# Altium footprint library QFP_Shrink_Sq_50P_Side_L.PcbLib: 32 footprints (part 2 of 3)
Each footprint in its own frame and in the unit in brackets; x right, y up, seen from the top. Pads: shape width x height; smd on the part's side, far side on the other; paste and mask are expansions set on the pad; w line width, h text height; cw(c..) or ccw(c..) is an arc to the next point about the centre after c.
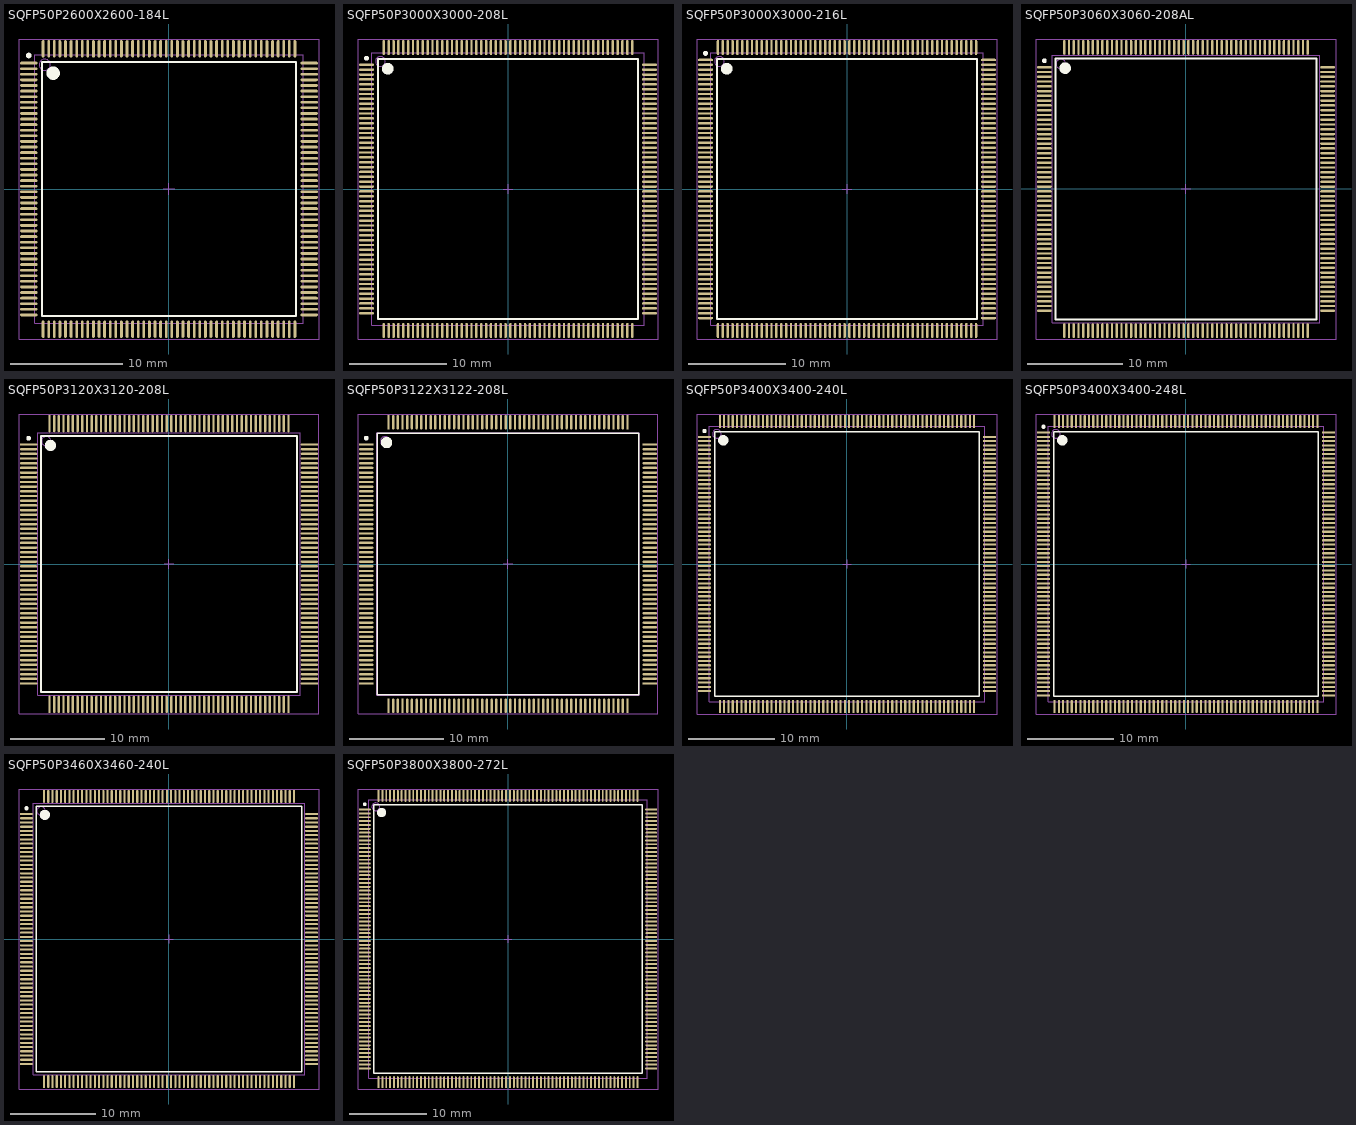
[diagram p1: the footprints below, top view; thin cyan lines are the x and y axes]

## SQFP50P2600X2600-184L [mm] "Shrink QFP, 184-Leads, Body 24x24mm, Pitch 0.5mm, IPC High Density"
height 3.2
pads (184):
  oval 1.55x0.25 smd: 1(-12.525,11.25) 2(-12.525,10.75) 3(-12.525,10.25) 4(-12.525,9.75) 5(-12.525,9.25) 6(-12.525,8.75) 7(-12.525,8.25) 8(-12.525,7.75) 9(-12.525,7.25) 10(-12.525,6.75) 11(-12.525,6.25) 12(-12.525,5.75) 13(-12.525,5.25) 14(-12.525,4.75) 15(-12.525,4.25) 16(-12.525,3.75) 17(-12.525,3.25) 18(-12.525,2.75) 19(-12.525,2.25) 20(-12.525,1.75) 21(-12.525,1.25) 22(-12.525,0.75) 23(-12.525,0.25) 24(-12.525,-0.25) 25(-12.525,-0.75) 26(-12.525,-1.25) 27(-12.525,-1.75) 28(-12.525,-2.25) 29(-12.525,-2.75) 30(-12.525,-3.25) 31(-12.525,-3.75) 32(-12.525,-4.25) 33(-12.525,-4.75) 34(-12.525,-5.25) 35(-12.525,-5.75) 36(-12.525,-6.25) 37(-12.525,-6.75) 38(-12.525,-7.25) 39(-12.525,-7.75) 40(-12.525,-8.25) 41(-12.525,-8.75) 42(-12.525,-9.25) 43(-12.525,-9.75) 44(-12.525,-10.25) 45(-12.525,-10.75) 46(-12.525,-11.25) 93(12.525,-11.25) 94(12.525,-10.75) 95(12.525,-10.25) 96(12.525,-9.75) 97(12.525,-9.25) 98(12.525,-8.75) 99(12.525,-8.25) 100(12.525,-7.75) 101(12.525,-7.25) 102(12.525,-6.75) 103(12.525,-6.25) 104(12.525,-5.75) 105(12.525,-5.25) 106(12.525,-4.75) 107(12.525,-4.25) 108(12.525,-3.75) 109(12.525,-3.25) 110(12.525,-2.75) 111(12.525,-2.25) 112(12.525,-1.75) 113(12.525,-1.25) 114(12.525,-0.75) 115(12.525,-0.25) 116(12.525,0.25) 117(12.525,0.75) 118(12.525,1.25) 119(12.525,1.75) 120(12.525,2.25) 121(12.525,2.75) 122(12.525,3.25) 123(12.525,3.75) 124(12.525,4.25) 125(12.525,4.75) 126(12.525,5.25) 127(12.525,5.75) 128(12.525,6.25) 129(12.525,6.75) 130(12.525,7.25) 131(12.525,7.75) 132(12.525,8.25) 133(12.525,8.75) 134(12.525,9.25) 135(12.525,9.75) 136(12.525,10.25) 137(12.525,10.75) 138(12.525,11.25)
  oval 0.25x1.55 smd: 47(-11.25,-12.525) 48(-10.75,-12.525) 49(-10.25,-12.525) 50(-9.75,-12.525) 51(-9.25,-12.525) 52(-8.75,-12.525) 53(-8.25,-12.525) 54(-7.75,-12.525) 55(-7.25,-12.525) 56(-6.75,-12.525) 57(-6.25,-12.525) 58(-5.75,-12.525) 59(-5.25,-12.525) 60(-4.75,-12.525) 61(-4.25,-12.525) 62(-3.75,-12.525) 63(-3.25,-12.525) 64(-2.75,-12.525) 65(-2.25,-12.525) 66(-1.75,-12.525) 67(-1.25,-12.525) 68(-0.75,-12.525) 69(-0.25,-12.525) 70(0.25,-12.525) 71(0.75,-12.525) 72(1.25,-12.525) 73(1.75,-12.525) 74(2.25,-12.525) 75(2.75,-12.525) 76(3.25,-12.525) 77(3.75,-12.525) 78(4.25,-12.525) 79(4.75,-12.525) 80(5.25,-12.525) 81(5.75,-12.525) 82(6.25,-12.525) 83(6.75,-12.525) 84(7.25,-12.525) 85(7.75,-12.525) 86(8.25,-12.525) 87(8.75,-12.525) 88(9.25,-12.525) 89(9.75,-12.525) 90(10.25,-12.525) 91(10.75,-12.525) 92(11.25,-12.525) 139(11.25,12.525) 140(10.75,12.525) 141(10.25,12.525) 142(9.75,12.525) 143(9.25,12.525) 144(8.75,12.525) 145(8.25,12.525) 146(7.75,12.525) 147(7.25,12.525) 148(6.75,12.525) 149(6.25,12.525) 150(5.75,12.525) 151(5.25,12.525) 152(4.75,12.525) 153(4.25,12.525) 154(3.75,12.525) 155(3.25,12.525) 156(2.75,12.525) 157(2.25,12.525) 158(1.75,12.525) 159(1.25,12.525) 160(0.75,12.525) 161(0.25,12.525) 162(-0.25,12.525) 163(-0.75,12.525) 164(-1.25,12.525) 165(-1.75,12.525) 166(-2.25,12.525) 167(-2.75,12.525) 168(-3.25,12.525) 169(-3.75,12.525) 170(-4.25,12.525) 171(-4.75,12.525) 172(-5.25,12.525) 173(-5.75,12.525) 174(-6.25,12.525) 175(-6.75,12.525) 176(-7.25,12.525) 177(-7.75,12.525) 178(-8.25,12.525) 179(-8.75,12.525) 180(-9.25,12.525) 181(-9.75,12.525) 182(-10.25,12.525) 183(-10.75,12.525) 184(-11.25,12.525)
Top Overlay:
  circle w0.6: c-10.35,10.35 r0.3
  circle w0.25: c-12.525,11.925 r0.125
  lines w0.2: -11.35,-11.35 11.35,-11.35 11.35,11.35 -11.35,11.35 -11.35,-11.35
Mechanical 13:
  circle w0.1: c-11.1,11.1 r0.5
  lines w0.1: -12,-12 12,-12 12,12 -12,12 -12,-12
Mechanical 15:
  lines w0.1: -0.5,0 0.5,0 ; 0,-0.5 0,0.5 ; -13.4,-13.4 13.4,-13.4 13.4,13.4 -13.4,13.4 -13.4,-13.4
3D body: height 3.2, standoff 0, extent -12,-12 12,12

## SQFP50P3000X3000-208L [mm] "Shrink QFP, 208-Leads, Body 28x28mm, Pitch 0.5mm, IPC High Density"
height 3.75
pads (208):
  oval 1.55x0.25 smd: 1(-14.525,12.75) 2(-14.525,12.25) 3(-14.525,11.75) 4(-14.525,11.25) 5(-14.525,10.75) 6(-14.525,10.25) 7(-14.525,9.75) 8(-14.525,9.25) 9(-14.525,8.75) 10(-14.525,8.25) 11(-14.525,7.75) 12(-14.525,7.25) 13(-14.525,6.75) 14(-14.525,6.25) 15(-14.525,5.75) 16(-14.525,5.25) 17(-14.525,4.75) 18(-14.525,4.25) 19(-14.525,3.75) 20(-14.525,3.25) 21(-14.525,2.75) 22(-14.525,2.25) 23(-14.525,1.75) 24(-14.525,1.25) 25(-14.525,0.75) 26(-14.525,0.25) 27(-14.525,-0.25) 28(-14.525,-0.75) 29(-14.525,-1.25) 30(-14.525,-1.75) 31(-14.525,-2.25) 32(-14.525,-2.75) 33(-14.525,-3.25) 34(-14.525,-3.75) 35(-14.525,-4.25) 36(-14.525,-4.75) 37(-14.525,-5.25) 38(-14.525,-5.75) 39(-14.525,-6.25) 40(-14.525,-6.75) 41(-14.525,-7.25) 42(-14.525,-7.75) 43(-14.525,-8.25) 44(-14.525,-8.75) 45(-14.525,-9.25) 46(-14.525,-9.75) 47(-14.525,-10.25) 48(-14.525,-10.75) 49(-14.525,-11.25) 50(-14.525,-11.75) 51(-14.525,-12.25) 52(-14.525,-12.75) 105(14.525,-12.75) 106(14.525,-12.25) 107(14.525,-11.75) 108(14.525,-11.25) 109(14.525,-10.75) 110(14.525,-10.25) 111(14.525,-9.75) 112(14.525,-9.25) 113(14.525,-8.75) 114(14.525,-8.25) 115(14.525,-7.75) 116(14.525,-7.25) 117(14.525,-6.75) 118(14.525,-6.25) 119(14.525,-5.75) 120(14.525,-5.25) 121(14.525,-4.75) 122(14.525,-4.25) 123(14.525,-3.75) 124(14.525,-3.25) 125(14.525,-2.75) 126(14.525,-2.25) 127(14.525,-1.75) 128(14.525,-1.25) 129(14.525,-0.75) 130(14.525,-0.25) 131(14.525,0.25) 132(14.525,0.75) 133(14.525,1.25) 134(14.525,1.75) 135(14.525,2.25) 136(14.525,2.75) 137(14.525,3.25) 138(14.525,3.75) 139(14.525,4.25) 140(14.525,4.75) 141(14.525,5.25) 142(14.525,5.75) 143(14.525,6.25) 144(14.525,6.75) 145(14.525,7.25) 146(14.525,7.75) 147(14.525,8.25) 148(14.525,8.75) 149(14.525,9.25) 150(14.525,9.75) 151(14.525,10.25) 152(14.525,10.75) 153(14.525,11.25) 154(14.525,11.75) 155(14.525,12.25) 156(14.525,12.75)
  oval 0.25x1.55 smd: 53(-12.75,-14.525) 54(-12.25,-14.525) 55(-11.75,-14.525) 56(-11.25,-14.525) 57(-10.75,-14.525) 58(-10.25,-14.525) 59(-9.75,-14.525) 60(-9.25,-14.525) 61(-8.75,-14.525) 62(-8.25,-14.525) 63(-7.75,-14.525) 64(-7.25,-14.525) 65(-6.75,-14.525) 66(-6.25,-14.525) 67(-5.75,-14.525) 68(-5.25,-14.525) 69(-4.75,-14.525) 70(-4.25,-14.525) 71(-3.75,-14.525) 72(-3.25,-14.525) 73(-2.75,-14.525) 74(-2.25,-14.525) 75(-1.75,-14.525) 76(-1.25,-14.525) 77(-0.75,-14.525) 78(-0.25,-14.525) 79(0.25,-14.525) 80(0.75,-14.525) 81(1.25,-14.525) 82(1.75,-14.525) 83(2.25,-14.525) 84(2.75,-14.525) 85(3.25,-14.525) 86(3.75,-14.525) 87(4.25,-14.525) 88(4.75,-14.525) 89(5.25,-14.525) 90(5.75,-14.525) 91(6.25,-14.525) 92(6.75,-14.525) 93(7.25,-14.525) 94(7.75,-14.525) 95(8.25,-14.525) 96(8.75,-14.525) 97(9.25,-14.525) 98(9.75,-14.525) 99(10.25,-14.525) 100(10.75,-14.525) 101(11.25,-14.525) 102(11.75,-14.525) 103(12.25,-14.525) 104(12.75,-14.525) 157(12.75,14.525) 158(12.25,14.525) 159(11.75,14.525) 160(11.25,14.525) 161(10.75,14.525) 162(10.25,14.525) 163(9.75,14.525) 164(9.25,14.525) 165(8.75,14.525) 166(8.25,14.525) 167(7.75,14.525) 168(7.25,14.525) 169(6.75,14.525) 170(6.25,14.525) 171(5.75,14.525) 172(5.25,14.525) 173(4.75,14.525) 174(4.25,14.525) 175(3.75,14.525) 176(3.25,14.525) 177(2.75,14.525) 178(2.25,14.525) 179(1.75,14.525) 180(1.25,14.525) 181(0.75,14.525) 182(0.25,14.525) 183(-0.25,14.525) 184(-0.75,14.525) 185(-1.25,14.525) 186(-1.75,14.525) 187(-2.25,14.525) 188(-2.75,14.525) 189(-3.25,14.525) 190(-3.75,14.525) 191(-4.25,14.525) 192(-4.75,14.525) 193(-5.25,14.525) 194(-5.75,14.525) 195(-6.25,14.525) 196(-6.75,14.525) 197(-7.25,14.525) 198(-7.75,14.525) 199(-8.25,14.525) 200(-8.75,14.525) 201(-9.25,14.525) 202(-9.75,14.525) 203(-10.25,14.525) 204(-10.75,14.525) 205(-11.25,14.525) 206(-11.75,14.525) 207(-12.25,14.525) 208(-12.75,14.525)
Top Overlay:
  circle w0.6: c-12.35,12.35 r0.3
  circle w0.25: c-14.525,13.425 r0.125
  lines w0.2: -13.35,-13.35 13.35,-13.35 13.35,13.35 -13.35,13.35 -13.35,-13.35
Mechanical 13:
  circle w0.1: c-13.1,13.1 r0.5
  lines w0.1: -14,-14 14,-14 14,14 -14,14 -14,-14
Mechanical 15:
  lines w0.1: -0.5,0 0.5,0 ; 0,-0.5 0,0.5 ; -15.4,-15.4 15.4,-15.4 15.4,15.4 -15.4,15.4 -15.4,-15.4
3D body: height 3.75, standoff 0, extent -14,-14 14,14

## SQFP50P3000X3000-216L [mm] "Shrink QFP, 216-Leads, Body 28x28mm, Pitch 0.5mm, IPC High Density"
height 3.75
pads (216):
  oval 1.55x0.25 smd: 1(-14.525,13.25) 2(-14.525,12.75) 3(-14.525,12.25) 4(-14.525,11.75) 5(-14.525,11.25) 6(-14.525,10.75) 7(-14.525,10.25) 8(-14.525,9.75) 9(-14.525,9.25) 10(-14.525,8.75) 11(-14.525,8.25) 12(-14.525,7.75) 13(-14.525,7.25) 14(-14.525,6.75) 15(-14.525,6.25) 16(-14.525,5.75) 17(-14.525,5.25) 18(-14.525,4.75) 19(-14.525,4.25) 20(-14.525,3.75) 21(-14.525,3.25) 22(-14.525,2.75) 23(-14.525,2.25) 24(-14.525,1.75) 25(-14.525,1.25) 26(-14.525,0.75) 27(-14.525,0.25) 28(-14.525,-0.25) 29(-14.525,-0.75) 30(-14.525,-1.25) 31(-14.525,-1.75) 32(-14.525,-2.25) 33(-14.525,-2.75) 34(-14.525,-3.25) 35(-14.525,-3.75) 36(-14.525,-4.25) 37(-14.525,-4.75) 38(-14.525,-5.25) 39(-14.525,-5.75) 40(-14.525,-6.25) 41(-14.525,-6.75) 42(-14.525,-7.25) 43(-14.525,-7.75) 44(-14.525,-8.25) 45(-14.525,-8.75) 46(-14.525,-9.25) 47(-14.525,-9.75) 48(-14.525,-10.25) 49(-14.525,-10.75) 50(-14.525,-11.25) 51(-14.525,-11.75) 52(-14.525,-12.25) 53(-14.525,-12.75) 54(-14.525,-13.25) 109(14.525,-13.25) 110(14.525,-12.75) 111(14.525,-12.25) 112(14.525,-11.75) 113(14.525,-11.25) 114(14.525,-10.75) 115(14.525,-10.25) 116(14.525,-9.75) 117(14.525,-9.25) 118(14.525,-8.75) 119(14.525,-8.25) 120(14.525,-7.75) 121(14.525,-7.25) 122(14.525,-6.75) 123(14.525,-6.25) 124(14.525,-5.75) 125(14.525,-5.25) 126(14.525,-4.75) 127(14.525,-4.25) 128(14.525,-3.75) 129(14.525,-3.25) 130(14.525,-2.75) 131(14.525,-2.25) 132(14.525,-1.75) 133(14.525,-1.25) 134(14.525,-0.75) 135(14.525,-0.25) 136(14.525,0.25) 137(14.525,0.75) 138(14.525,1.25) 139(14.525,1.75) 140(14.525,2.25) 141(14.525,2.75) 142(14.525,3.25) 143(14.525,3.75) 144(14.525,4.25) 145(14.525,4.75) 146(14.525,5.25) 147(14.525,5.75) 148(14.525,6.25) 149(14.525,6.75) 150(14.525,7.25) 151(14.525,7.75) 152(14.525,8.25) 153(14.525,8.75) 154(14.525,9.25) 155(14.525,9.75) 156(14.525,10.25) 157(14.525,10.75) 158(14.525,11.25) 159(14.525,11.75) 160(14.525,12.25) 161(14.525,12.75) 162(14.525,13.25)
  oval 0.25x1.55 smd: 55(-13.25,-14.525) 56(-12.75,-14.525) 57(-12.25,-14.525) 58(-11.75,-14.525) 59(-11.25,-14.525) 60(-10.75,-14.525) 61(-10.25,-14.525) 62(-9.75,-14.525) 63(-9.25,-14.525) 64(-8.75,-14.525) 65(-8.25,-14.525) 66(-7.75,-14.525) 67(-7.25,-14.525) 68(-6.75,-14.525) 69(-6.25,-14.525) 70(-5.75,-14.525) 71(-5.25,-14.525) 72(-4.75,-14.525) 73(-4.25,-14.525) 74(-3.75,-14.525) 75(-3.25,-14.525) 76(-2.75,-14.525) 77(-2.25,-14.525) 78(-1.75,-14.525) 79(-1.25,-14.525) 80(-0.75,-14.525) 81(-0.25,-14.525) 82(0.25,-14.525) 83(0.75,-14.525) 84(1.25,-14.525) 85(1.75,-14.525) 86(2.25,-14.525) 87(2.75,-14.525) 88(3.25,-14.525) 89(3.75,-14.525) 90(4.25,-14.525) 91(4.75,-14.525) 92(5.25,-14.525) 93(5.75,-14.525) 94(6.25,-14.525) 95(6.75,-14.525) 96(7.25,-14.525) 97(7.75,-14.525) 98(8.25,-14.525) 99(8.75,-14.525) 100(9.25,-14.525) 101(9.75,-14.525) 102(10.25,-14.525) 103(10.75,-14.525) 104(11.25,-14.525) 105(11.75,-14.525) 106(12.25,-14.525) 107(12.75,-14.525) 108(13.25,-14.525) 163(13.25,14.525) 164(12.75,14.525) 165(12.25,14.525) 166(11.75,14.525) 167(11.25,14.525) 168(10.75,14.525) 169(10.25,14.525) 170(9.75,14.525) 171(9.25,14.525) 172(8.75,14.525) 173(8.25,14.525) 174(7.75,14.525) 175(7.25,14.525) 176(6.75,14.525) 177(6.25,14.525) 178(5.75,14.525) 179(5.25,14.525) 180(4.75,14.525) 181(4.25,14.525) 182(3.75,14.525) 183(3.25,14.525) 184(2.75,14.525) 185(2.25,14.525) 186(1.75,14.525) 187(1.25,14.525) 188(0.75,14.525) 189(0.25,14.525) 190(-0.25,14.525) 191(-0.75,14.525) 192(-1.25,14.525) 193(-1.75,14.525) 194(-2.25,14.525) 195(-2.75,14.525) 196(-3.25,14.525) 197(-3.75,14.525) 198(-4.25,14.525) 199(-4.75,14.525) 200(-5.25,14.525) 201(-5.75,14.525) 202(-6.25,14.525) 203(-6.75,14.525) 204(-7.25,14.525) 205(-7.75,14.525) 206(-8.25,14.525) 207(-8.75,14.525) 208(-9.25,14.525) 209(-9.75,14.525) 210(-10.25,14.525) 211(-10.75,14.525) 212(-11.25,14.525) 213(-11.75,14.525) 214(-12.25,14.525) 215(-12.75,14.525) 216(-13.25,14.525)
Top Overlay:
  circle w0.6: c-12.35,12.35 r0.3
  circle w0.25: c-14.525,13.925 r0.125
  lines w0.2: -13.35,-13.35 13.35,-13.35 13.35,13.35 -13.35,13.35 -13.35,-13.35
Mechanical 13:
  circle w0.1: c-13.1,13.1 r0.5
  lines w0.1: -14,-14 14,-14 14,14 -14,14 -14,-14
Mechanical 15:
  lines w0.1: -0.5,0 0.5,0 ; 0,-0.5 0,0.5 ; -15.4,-15.4 15.4,-15.4 15.4,15.4 -15.4,15.4 -15.4,-15.4
3D body: height 3.75, standoff 0, extent -14,-14 14,14

## SQFP50P3060X3060-208AL [mm] "Shrink QFP, 208-Leads, Body 28x28mm, Pitch 0.5mm, IPC High Density"
height 4.1
pads (208):
  oval 1.55x0.25 smd: 1(-14.825,12.75) 2(-14.825,12.25) 3(-14.825,11.75) 4(-14.825,11.25) 5(-14.825,10.75) 6(-14.825,10.25) 7(-14.825,9.75) 8(-14.825,9.25) 9(-14.825,8.75) 10(-14.825,8.25) 11(-14.825,7.75) 12(-14.825,7.25) 13(-14.825,6.75) 14(-14.825,6.25) 15(-14.825,5.75) 16(-14.825,5.25) 17(-14.825,4.75) 18(-14.825,4.25) 19(-14.825,3.75) 20(-14.825,3.25) 21(-14.825,2.75) 22(-14.825,2.25) 23(-14.825,1.75) 24(-14.825,1.25) 25(-14.825,0.75) 26(-14.825,0.25) 27(-14.825,-0.25) 28(-14.825,-0.75) 29(-14.825,-1.25) 30(-14.825,-1.75) 31(-14.825,-2.25) 32(-14.825,-2.75) 33(-14.825,-3.25) 34(-14.825,-3.75) 35(-14.825,-4.25) 36(-14.825,-4.75) 37(-14.825,-5.25) 38(-14.825,-5.75) 39(-14.825,-6.25) 40(-14.825,-6.75) 41(-14.825,-7.25) 42(-14.825,-7.75) 43(-14.825,-8.25) 44(-14.825,-8.75) 45(-14.825,-9.25) 46(-14.825,-9.75) 47(-14.825,-10.25) 48(-14.825,-10.75) 49(-14.825,-11.25) 50(-14.825,-11.75) 51(-14.825,-12.25) 52(-14.825,-12.75) 105(14.825,-12.75) 106(14.825,-12.25) 107(14.825,-11.75) 108(14.825,-11.25) 109(14.825,-10.75) 110(14.825,-10.25) 111(14.825,-9.75) 112(14.825,-9.25) 113(14.825,-8.75) 114(14.825,-8.25) 115(14.825,-7.75) 116(14.825,-7.25) 117(14.825,-6.75) 118(14.825,-6.25) 119(14.825,-5.75) 120(14.825,-5.25) 121(14.825,-4.75) 122(14.825,-4.25) 123(14.825,-3.75) 124(14.825,-3.25) 125(14.825,-2.75) 126(14.825,-2.25) 127(14.825,-1.75) 128(14.825,-1.25) 129(14.825,-0.75) 130(14.825,-0.25) 131(14.825,0.25) 132(14.825,0.75) 133(14.825,1.25) 134(14.825,1.75) 135(14.825,2.25) 136(14.825,2.75) 137(14.825,3.25) 138(14.825,3.75) 139(14.825,4.25) 140(14.825,4.75) 141(14.825,5.25) 142(14.825,5.75) 143(14.825,6.25) 144(14.825,6.75) 145(14.825,7.25) 146(14.825,7.75) 147(14.825,8.25) 148(14.825,8.75) 149(14.825,9.25) 150(14.825,9.75) 151(14.825,10.25) 152(14.825,10.75) 153(14.825,11.25) 154(14.825,11.75) 155(14.825,12.25) 156(14.825,12.75)
  oval 0.25x1.55 smd: 53(-12.75,-14.825) 54(-12.25,-14.825) 55(-11.75,-14.825) 56(-11.25,-14.825) 57(-10.75,-14.825) 58(-10.25,-14.825) 59(-9.75,-14.825) 60(-9.25,-14.825) 61(-8.75,-14.825) 62(-8.25,-14.825) 63(-7.75,-14.825) 64(-7.25,-14.825) 65(-6.75,-14.825) 66(-6.25,-14.825) 67(-5.75,-14.825) 68(-5.25,-14.825) 69(-4.75,-14.825) 70(-4.25,-14.825) 71(-3.75,-14.825) 72(-3.25,-14.825) 73(-2.75,-14.825) 74(-2.25,-14.825) 75(-1.75,-14.825) 76(-1.25,-14.825) 77(-0.75,-14.825) 78(-0.25,-14.825) 79(0.25,-14.825) 80(0.75,-14.825) 81(1.25,-14.825) 82(1.75,-14.825) 83(2.25,-14.825) 84(2.75,-14.825) 85(3.25,-14.825) 86(3.75,-14.825) 87(4.25,-14.825) 88(4.75,-14.825) 89(5.25,-14.825) 90(5.75,-14.825) 91(6.25,-14.825) 92(6.75,-14.825) 93(7.25,-14.825) 94(7.75,-14.825) 95(8.25,-14.825) 96(8.75,-14.825) 97(9.25,-14.825) 98(9.75,-14.825) 99(10.25,-14.825) 100(10.75,-14.825) 101(11.25,-14.825) 102(11.75,-14.825) 103(12.25,-14.825) 104(12.75,-14.825) 157(12.75,14.825) 158(12.25,14.825) 159(11.75,14.825) 160(11.25,14.825) 161(10.75,14.825) 162(10.25,14.825) 163(9.75,14.825) 164(9.25,14.825) 165(8.75,14.825) 166(8.25,14.825) 167(7.75,14.825) 168(7.25,14.825) 169(6.75,14.825) 170(6.25,14.825) 171(5.75,14.825) 172(5.25,14.825) 173(4.75,14.825) 174(4.25,14.825) 175(3.75,14.825) 176(3.25,14.825) 177(2.75,14.825) 178(2.25,14.825) 179(1.75,14.825) 180(1.25,14.825) 181(0.75,14.825) 182(0.25,14.825) 183(-0.25,14.825) 184(-0.75,14.825) 185(-1.25,14.825) 186(-1.75,14.825) 187(-2.25,14.825) 188(-2.75,14.825) 189(-3.25,14.825) 190(-3.75,14.825) 191(-4.25,14.825) 192(-4.75,14.825) 193(-5.25,14.825) 194(-5.75,14.825) 195(-6.25,14.825) 196(-6.75,14.825) 197(-7.25,14.825) 198(-7.75,14.825) 199(-8.25,14.825) 200(-8.75,14.825) 201(-9.25,14.825) 202(-9.75,14.825) 203(-10.25,14.825) 204(-10.75,14.825) 205(-11.25,14.825) 206(-11.75,14.825) 207(-12.25,14.825) 208(-12.75,14.825)
Top Overlay:
  circle w0.6: c-12.65,12.65 r0.3
  circle w0.25: c-14.825,13.425 r0.125
  lines w0.2: -13.65,-13.65 13.65,-13.65 13.65,13.65 -13.65,13.65 -13.65,-13.65
Mechanical 13:
  circle w0.1: c-13.1,13.1 r0.5
  lines w0.1: -14,-14 14,-14 14,14 -14,14 -14,-14
Mechanical 15:
  lines w0.1: -0.5,0 0.5,0 ; 0,-0.5 0,0.5 ; -15.7,-15.7 15.7,-15.7 15.7,15.7 -15.7,15.7 -15.7,-15.7
3D body: height 4.1, standoff 0, extent -14,-14 14,14

## SQFP50P3120X3120-208L [mm] "Shrink QFP, 208-Leads, Body 28x28mm, Pitch 0.5mm, IPC High Density"
height 4.1
pads (208):
  oval 1.85x0.25 smd: 1(-14.975,12.75) 2(-14.975,12.25) 3(-14.975,11.75) 4(-14.975,11.25) 5(-14.975,10.75) 6(-14.975,10.25) 7(-14.975,9.75) 8(-14.975,9.25) 9(-14.975,8.75) 10(-14.975,8.25) 11(-14.975,7.75) 12(-14.975,7.25) 13(-14.975,6.75) 14(-14.975,6.25) 15(-14.975,5.75) 16(-14.975,5.25) 17(-14.975,4.75) 18(-14.975,4.25) 19(-14.975,3.75) 20(-14.975,3.25) 21(-14.975,2.75) 22(-14.975,2.25) 23(-14.975,1.75) 24(-14.975,1.25) 25(-14.975,0.75) 26(-14.975,0.25) 27(-14.975,-0.25) 28(-14.975,-0.75) 29(-14.975,-1.25) 30(-14.975,-1.75) 31(-14.975,-2.25) 32(-14.975,-2.75) 33(-14.975,-3.25) 34(-14.975,-3.75) 35(-14.975,-4.25) 36(-14.975,-4.75) 37(-14.975,-5.25) 38(-14.975,-5.75) 39(-14.975,-6.25) 40(-14.975,-6.75) 41(-14.975,-7.25) 42(-14.975,-7.75) 43(-14.975,-8.25) 44(-14.975,-8.75) 45(-14.975,-9.25) 46(-14.975,-9.75) 47(-14.975,-10.25) 48(-14.975,-10.75) 49(-14.975,-11.25) 50(-14.975,-11.75) 51(-14.975,-12.25) 52(-14.975,-12.75) 105(14.975,-12.75) 106(14.975,-12.25) 107(14.975,-11.75) 108(14.975,-11.25) 109(14.975,-10.75) 110(14.975,-10.25) 111(14.975,-9.75) 112(14.975,-9.25) 113(14.975,-8.75) 114(14.975,-8.25) 115(14.975,-7.75) 116(14.975,-7.25) 117(14.975,-6.75) 118(14.975,-6.25) 119(14.975,-5.75) 120(14.975,-5.25) 121(14.975,-4.75) 122(14.975,-4.25) 123(14.975,-3.75) 124(14.975,-3.25) 125(14.975,-2.75) 126(14.975,-2.25) 127(14.975,-1.75) 128(14.975,-1.25) 129(14.975,-0.75) 130(14.975,-0.25) 131(14.975,0.25) 132(14.975,0.75) 133(14.975,1.25) 134(14.975,1.75) 135(14.975,2.25) 136(14.975,2.75) 137(14.975,3.25) 138(14.975,3.75) 139(14.975,4.25) 140(14.975,4.75) 141(14.975,5.25) 142(14.975,5.75) 143(14.975,6.25) 144(14.975,6.75) 145(14.975,7.25) 146(14.975,7.75) 147(14.975,8.25) 148(14.975,8.75) 149(14.975,9.25) 150(14.975,9.75) 151(14.975,10.25) 152(14.975,10.75) 153(14.975,11.25) 154(14.975,11.75) 155(14.975,12.25) 156(14.975,12.75)
  oval 0.25x1.85 smd: 53(-12.75,-14.975) 54(-12.25,-14.975) 55(-11.75,-14.975) 56(-11.25,-14.975) 57(-10.75,-14.975) 58(-10.25,-14.975) 59(-9.75,-14.975) 60(-9.25,-14.975) 61(-8.75,-14.975) 62(-8.25,-14.975) 63(-7.75,-14.975) 64(-7.25,-14.975) 65(-6.75,-14.975) 66(-6.25,-14.975) 67(-5.75,-14.975) 68(-5.25,-14.975) 69(-4.75,-14.975) 70(-4.25,-14.975) 71(-3.75,-14.975) 72(-3.25,-14.975) 73(-2.75,-14.975) 74(-2.25,-14.975) 75(-1.75,-14.975) 76(-1.25,-14.975) 77(-0.75,-14.975) 78(-0.25,-14.975) 79(0.25,-14.975) 80(0.75,-14.975) 81(1.25,-14.975) 82(1.75,-14.975) 83(2.25,-14.975) 84(2.75,-14.975) 85(3.25,-14.975) 86(3.75,-14.975) 87(4.25,-14.975) 88(4.75,-14.975) 89(5.25,-14.975) 90(5.75,-14.975) 91(6.25,-14.975) 92(6.75,-14.975) 93(7.25,-14.975) 94(7.75,-14.975) 95(8.25,-14.975) 96(8.75,-14.975) 97(9.25,-14.975) 98(9.75,-14.975) 99(10.25,-14.975) 100(10.75,-14.975) 101(11.25,-14.975) 102(11.75,-14.975) 103(12.25,-14.975) 104(12.75,-14.975) 157(12.75,14.975) 158(12.25,14.975) 159(11.75,14.975) 160(11.25,14.975) 161(10.75,14.975) 162(10.25,14.975) 163(9.75,14.975) 164(9.25,14.975) 165(8.75,14.975) 166(8.25,14.975) 167(7.75,14.975) 168(7.25,14.975) 169(6.75,14.975) 170(6.25,14.975) 171(5.75,14.975) 172(5.25,14.975) 173(4.75,14.975) 174(4.25,14.975) 175(3.75,14.975) 176(3.25,14.975) 177(2.75,14.975) 178(2.25,14.975) 179(1.75,14.975) 180(1.25,14.975) 181(0.75,14.975) 182(0.25,14.975) 183(-0.25,14.975) 184(-0.75,14.975) 185(-1.25,14.975) 186(-1.75,14.975) 187(-2.25,14.975) 188(-2.75,14.975) 189(-3.25,14.975) 190(-3.75,14.975) 191(-4.25,14.975) 192(-4.75,14.975) 193(-5.25,14.975) 194(-5.75,14.975) 195(-6.25,14.975) 196(-6.75,14.975) 197(-7.25,14.975) 198(-7.75,14.975) 199(-8.25,14.975) 200(-8.75,14.975) 201(-9.25,14.975) 202(-9.75,14.975) 203(-10.25,14.975) 204(-10.75,14.975) 205(-11.25,14.975) 206(-11.75,14.975) 207(-12.25,14.975) 208(-12.75,14.975)
Top Overlay:
  circle w0.6: c-12.65,12.65 r0.3
  circle w0.25: c-14.975,13.425 r0.125
  lines w0.2: -13.65,-13.65 13.65,-13.65 13.65,13.65 -13.65,13.65 -13.65,-13.65
Mechanical 13:
  circle w0.1: c-13.1,13.1 r0.5
  lines w0.1: -14,-14 14,-14 14,14 -14,14 -14,-14
Mechanical 15:
  lines w0.1: -0.5,0 0.5,0 ; 0,-0.5 0,0.5 ; -16,-16 16,-16 16,16 -16,16 -16,-16
3D body: height 4.1, standoff 0, extent -14,-14 14,14

## SQFP50P3122X3122-208L [mm] "Shrink QFP, 208-Leads, Body 28x28mm, Pitch 0.5mm, IPC High Density"
height 2.94
pads (208):
  oval 1.55x0.25 smd: 1(-15.125,12.75) 2(-15.125,12.25) 3(-15.125,11.75) 4(-15.125,11.25) 5(-15.125,10.75) 6(-15.125,10.25) 7(-15.125,9.75) 8(-15.125,9.25) 9(-15.125,8.75) 10(-15.125,8.25) 11(-15.125,7.75) 12(-15.125,7.25) 13(-15.125,6.75) 14(-15.125,6.25) 15(-15.125,5.75) 16(-15.125,5.25) 17(-15.125,4.75) 18(-15.125,4.25) 19(-15.125,3.75) 20(-15.125,3.25) 21(-15.125,2.75) 22(-15.125,2.25) 23(-15.125,1.75) 24(-15.125,1.25) 25(-15.125,0.75) 26(-15.125,0.25) 27(-15.125,-0.25) 28(-15.125,-0.75) 29(-15.125,-1.25) 30(-15.125,-1.75) 31(-15.125,-2.25) 32(-15.125,-2.75) 33(-15.125,-3.25) 34(-15.125,-3.75) 35(-15.125,-4.25) 36(-15.125,-4.75) 37(-15.125,-5.25) 38(-15.125,-5.75) 39(-15.125,-6.25) 40(-15.125,-6.75) 41(-15.125,-7.25) 42(-15.125,-7.75) 43(-15.125,-8.25) 44(-15.125,-8.75) 45(-15.125,-9.25) 46(-15.125,-9.75) 47(-15.125,-10.25) 48(-15.125,-10.75) 49(-15.125,-11.25) 50(-15.125,-11.75) 51(-15.125,-12.25) 52(-15.125,-12.75) 105(15.125,-12.75) 106(15.125,-12.25) 107(15.125,-11.75) 108(15.125,-11.25) 109(15.125,-10.75) 110(15.125,-10.25) 111(15.125,-9.75) 112(15.125,-9.25) 113(15.125,-8.75) 114(15.125,-8.25) 115(15.125,-7.75) 116(15.125,-7.25) 117(15.125,-6.75) 118(15.125,-6.25) 119(15.125,-5.75) 120(15.125,-5.25) 121(15.125,-4.75) 122(15.125,-4.25) 123(15.125,-3.75) 124(15.125,-3.25) 125(15.125,-2.75) 126(15.125,-2.25) 127(15.125,-1.75) 128(15.125,-1.25) 129(15.125,-0.75) 130(15.125,-0.25) 131(15.125,0.25) 132(15.125,0.75) 133(15.125,1.25) 134(15.125,1.75) 135(15.125,2.25) 136(15.125,2.75) 137(15.125,3.25) 138(15.125,3.75) 139(15.125,4.25) 140(15.125,4.75) 141(15.125,5.25) 142(15.125,5.75) 143(15.125,6.25) 144(15.125,6.75) 145(15.125,7.25) 146(15.125,7.75) 147(15.125,8.25) 148(15.125,8.75) 149(15.125,9.25) 150(15.125,9.75) 151(15.125,10.25) 152(15.125,10.75) 153(15.125,11.25) 154(15.125,11.75) 155(15.125,12.25) 156(15.125,12.75)
  oval 0.25x1.55 smd: 53(-12.75,-15.125) 54(-12.25,-15.125) 55(-11.75,-15.125) 56(-11.25,-15.125) 57(-10.75,-15.125) 58(-10.25,-15.125) 59(-9.75,-15.125) 60(-9.25,-15.125) 61(-8.75,-15.125) 62(-8.25,-15.125) 63(-7.75,-15.125) 64(-7.25,-15.125) 65(-6.75,-15.125) 66(-6.25,-15.125) 67(-5.75,-15.125) 68(-5.25,-15.125) 69(-4.75,-15.125) 70(-4.25,-15.125) 71(-3.75,-15.125) 72(-3.25,-15.125) 73(-2.75,-15.125) 74(-2.25,-15.125) 75(-1.75,-15.125) 76(-1.25,-15.125) 77(-0.75,-15.125) 78(-0.25,-15.125) 79(0.25,-15.125) 80(0.75,-15.125) 81(1.25,-15.125) 82(1.75,-15.125) 83(2.25,-15.125) 84(2.75,-15.125) 85(3.25,-15.125) 86(3.75,-15.125) 87(4.25,-15.125) 88(4.75,-15.125) 89(5.25,-15.125) 90(5.75,-15.125) 91(6.25,-15.125) 92(6.75,-15.125) 93(7.25,-15.125) 94(7.75,-15.125) 95(8.25,-15.125) 96(8.75,-15.125) 97(9.25,-15.125) 98(9.75,-15.125) 99(10.25,-15.125) 100(10.75,-15.125) 101(11.25,-15.125) 102(11.75,-15.125) 103(12.25,-15.125) 104(12.75,-15.125) 157(12.75,15.125) 158(12.25,15.125) 159(11.75,15.125) 160(11.25,15.125) 161(10.75,15.125) 162(10.25,15.125) 163(9.75,15.125) 164(9.25,15.125) 165(8.75,15.125) 166(8.25,15.125) 167(7.75,15.125) 168(7.25,15.125) 169(6.75,15.125) 170(6.25,15.125) 171(5.75,15.125) 172(5.25,15.125) 173(4.75,15.125) 174(4.25,15.125) 175(3.75,15.125) 176(3.25,15.125) 177(2.75,15.125) 178(2.25,15.125) 179(1.75,15.125) 180(1.25,15.125) 181(0.75,15.125) 182(0.25,15.125) 183(-0.25,15.125) 184(-0.75,15.125) 185(-1.25,15.125) 186(-1.75,15.125) 187(-2.25,15.125) 188(-2.75,15.125) 189(-3.25,15.125) 190(-3.75,15.125) 191(-4.25,15.125) 192(-4.75,15.125) 193(-5.25,15.125) 194(-5.75,15.125) 195(-6.25,15.125) 196(-6.75,15.125) 197(-7.25,15.125) 198(-7.75,15.125) 199(-8.25,15.125) 200(-8.75,15.125) 201(-9.25,15.125) 202(-9.75,15.125) 203(-10.25,15.125) 204(-10.75,15.125) 205(-11.25,15.125) 206(-11.75,15.125) 207(-12.25,15.125) 208(-12.75,15.125)
Top Overlay:
  circle w0.6: c-12.95,12.95 r0.3
  circle w0.25: c-15.125,13.425 r0.125
  lines w0.2: -13.95,-13.95 13.95,-13.95 13.95,13.95 -13.95,13.95 -13.95,-13.95
Mechanical 13:
  circle w0.1: c-13.1,13.1 r0.5
  lines w0.1: -14,-14 14,-14 14,14 -14,14 -14,-14
Mechanical 15:
  lines w0.1: -0.5,0 0.5,0 ; 0,-0.5 0,0.5 ; -16,-16 16,-16 16,16 -16,16 -16,-16
3D body: height 2.94, standoff 0, extent -14,-14 14,14

## SQFP50P3400X3400-240L [mm] "Shrink QFP, 240-Leads, Body 32x32mm, Pitch 0.5mm, IPC High Density"
height 4.2
pads (240):
  oval 1.55x0.25 smd: 1(-16.525,14.75) 2(-16.525,14.25) 3(-16.525,13.75) 4(-16.525,13.25) 5(-16.525,12.75) 6(-16.525,12.25) 7(-16.525,11.75) 8(-16.525,11.25) 9(-16.525,10.75) 10(-16.525,10.25) 11(-16.525,9.75) 12(-16.525,9.25) 13(-16.525,8.75) 14(-16.525,8.25) 15(-16.525,7.75) 16(-16.525,7.25) 17(-16.525,6.75) 18(-16.525,6.25) 19(-16.525,5.75) 20(-16.525,5.25) 21(-16.525,4.75) 22(-16.525,4.25) 23(-16.525,3.75) 24(-16.525,3.25) 25(-16.525,2.75) 26(-16.525,2.25) 27(-16.525,1.75) 28(-16.525,1.25) 29(-16.525,0.75) 30(-16.525,0.25) 31(-16.525,-0.25) 32(-16.525,-0.75) 33(-16.525,-1.25) 34(-16.525,-1.75) 35(-16.525,-2.25) 36(-16.525,-2.75) 37(-16.525,-3.25) 38(-16.525,-3.75) 39(-16.525,-4.25) 40(-16.525,-4.75) 41(-16.525,-5.25) 42(-16.525,-5.75) 43(-16.525,-6.25) 44(-16.525,-6.75) 45(-16.525,-7.25) 46(-16.525,-7.75) 47(-16.525,-8.25) 48(-16.525,-8.75) 49(-16.525,-9.25) 50(-16.525,-9.75) 51(-16.525,-10.25) 52(-16.525,-10.75) 53(-16.525,-11.25) 54(-16.525,-11.75) 55(-16.525,-12.25) 56(-16.525,-12.75) 57(-16.525,-13.25) 58(-16.525,-13.75) 59(-16.525,-14.25) 60(-16.525,-14.75) 121(16.525,-14.75) 122(16.525,-14.25) 123(16.525,-13.75) 124(16.525,-13.25) 125(16.525,-12.75) 126(16.525,-12.25) 127(16.525,-11.75) 128(16.525,-11.25) 129(16.525,-10.75) 130(16.525,-10.25) 131(16.525,-9.75) 132(16.525,-9.25) 133(16.525,-8.75) 134(16.525,-8.25) 135(16.525,-7.75) 136(16.525,-7.25) 137(16.525,-6.75) 138(16.525,-6.25) 139(16.525,-5.75) 140(16.525,-5.25) 141(16.525,-4.75) 142(16.525,-4.25) 143(16.525,-3.75) 144(16.525,-3.25) 145(16.525,-2.75) 146(16.525,-2.25) 147(16.525,-1.75) 148(16.525,-1.25) 149(16.525,-0.75) 150(16.525,-0.25) 151(16.525,0.25) 152(16.525,0.75) 153(16.525,1.25) 154(16.525,1.75) 155(16.525,2.25) 156(16.525,2.75) 157(16.525,3.25) 158(16.525,3.75) 159(16.525,4.25) 160(16.525,4.75) 161(16.525,5.25) 162(16.525,5.75) 163(16.525,6.25) 164(16.525,6.75) 165(16.525,7.25) 166(16.525,7.75) 167(16.525,8.25) 168(16.525,8.75) 169(16.525,9.25) 170(16.525,9.75) 171(16.525,10.25) 172(16.525,10.75) 173(16.525,11.25) 174(16.525,11.75) 175(16.525,12.25) 176(16.525,12.75) 177(16.525,13.25) 178(16.525,13.75) 179(16.525,14.25) 180(16.525,14.75)
  oval 0.25x1.55 smd: 61(-14.75,-16.525) 62(-14.25,-16.525) 63(-13.75,-16.525) 64(-13.25,-16.525) 65(-12.75,-16.525) 66(-12.25,-16.525) 67(-11.75,-16.525) 68(-11.25,-16.525) 69(-10.75,-16.525) 70(-10.25,-16.525) 71(-9.75,-16.525) 72(-9.25,-16.525) 73(-8.75,-16.525) 74(-8.25,-16.525) 75(-7.75,-16.525) 76(-7.25,-16.525) 77(-6.75,-16.525) 78(-6.25,-16.525) 79(-5.75,-16.525) 80(-5.25,-16.525) 81(-4.75,-16.525) 82(-4.25,-16.525) 83(-3.75,-16.525) 84(-3.25,-16.525) 85(-2.75,-16.525) 86(-2.25,-16.525) 87(-1.75,-16.525) 88(-1.25,-16.525) 89(-0.75,-16.525) 90(-0.25,-16.525) 91(0.25,-16.525) 92(0.75,-16.525) 93(1.25,-16.525) 94(1.75,-16.525) 95(2.25,-16.525) 96(2.75,-16.525) 97(3.25,-16.525) 98(3.75,-16.525) 99(4.25,-16.525) 100(4.75,-16.525) 101(5.25,-16.525) 102(5.75,-16.525) 103(6.25,-16.525) 104(6.75,-16.525) 105(7.25,-16.525) 106(7.75,-16.525) 107(8.25,-16.525) 108(8.75,-16.525) 109(9.25,-16.525) 110(9.75,-16.525) 111(10.25,-16.525) 112(10.75,-16.525) 113(11.25,-16.525) 114(11.75,-16.525) 115(12.25,-16.525) 116(12.75,-16.525) 117(13.25,-16.525) 118(13.75,-16.525) 119(14.25,-16.525) 120(14.75,-16.525) 181(14.75,16.525) 182(14.25,16.525) 183(13.75,16.525) 184(13.25,16.525) 185(12.75,16.525) 186(12.25,16.525) 187(11.75,16.525) 188(11.25,16.525) 189(10.75,16.525) 190(10.25,16.525) 191(9.75,16.525) 192(9.25,16.525) 193(8.75,16.525) 194(8.25,16.525) 195(7.75,16.525) 196(7.25,16.525) 197(6.75,16.525) 198(6.25,16.525) 199(5.75,16.525) 200(5.25,16.525) 201(4.75,16.525) 202(4.25,16.525) 203(3.75,16.525) 204(3.25,16.525) 205(2.75,16.525) 206(2.25,16.525) 207(1.75,16.525) 208(1.25,16.525) 209(0.75,16.525) 210(0.25,16.525) 211(-0.25,16.525) 212(-0.75,16.525) 213(-1.25,16.525) 214(-1.75,16.525) 215(-2.25,16.525) 216(-2.75,16.525) 217(-3.25,16.525) 218(-3.75,16.525) 219(-4.25,16.525) 220(-4.75,16.525) 221(-5.25,16.525) 222(-5.75,16.525) 223(-6.25,16.525) 224(-6.75,16.525) 225(-7.25,16.525) 226(-7.75,16.525) 227(-8.25,16.525) 228(-8.75,16.525) 229(-9.25,16.525) 230(-9.75,16.525) 231(-10.25,16.525) 232(-10.75,16.525) 233(-11.25,16.525) 234(-11.75,16.525) 235(-12.25,16.525) 236(-12.75,16.525) 237(-13.25,16.525) 238(-13.75,16.525) 239(-14.25,16.525) 240(-14.75,16.525)
Top Overlay:
  circle w0.6: c-14.35,14.35 r0.3
  circle w0.25: c-16.525,15.425 r0.125
  lines w0.2: -15.35,-15.35 15.35,-15.35 15.35,15.35 -15.35,15.35 -15.35,-15.35
Mechanical 13:
  circle w0.1: c-15.1,15.1 r0.5
  lines w0.1: -16,-16 16,-16 16,16 -16,16 -16,-16
Mechanical 15:
  lines w0.1: -0.5,0 0.5,0 ; 0,-0.5 0,0.5 ; -17.4,-17.4 17.4,-17.4 17.4,17.4 -17.4,17.4 -17.4,-17.4
3D body: height 4.2, standoff 0, extent -16,-16 16,16

## SQFP50P3400X3400-248L [mm] "Shrink QFP, 248-Leads, Body 32x32mm, Pitch 0.5mm, IPC High Density"
height 4.2
pads (248):
  oval 1.55x0.25 smd: 1(-16.525,15.25) 2(-16.525,14.75) 3(-16.525,14.25) 4(-16.525,13.75) 5(-16.525,13.25) 6(-16.525,12.75) 7(-16.525,12.25) 8(-16.525,11.75) 9(-16.525,11.25) 10(-16.525,10.75) 11(-16.525,10.25) 12(-16.525,9.75) 13(-16.525,9.25) 14(-16.525,8.75) 15(-16.525,8.25) 16(-16.525,7.75) 17(-16.525,7.25) 18(-16.525,6.75) 19(-16.525,6.25) 20(-16.525,5.75) 21(-16.525,5.25) 22(-16.525,4.75) 23(-16.525,4.25) 24(-16.525,3.75) 25(-16.525,3.25) 26(-16.525,2.75) 27(-16.525,2.25) 28(-16.525,1.75) 29(-16.525,1.25) 30(-16.525,0.75) 31(-16.525,0.25) 32(-16.525,-0.25) 33(-16.525,-0.75) 34(-16.525,-1.25) 35(-16.525,-1.75) 36(-16.525,-2.25) 37(-16.525,-2.75) 38(-16.525,-3.25) 39(-16.525,-3.75) 40(-16.525,-4.25) 41(-16.525,-4.75) 42(-16.525,-5.25) 43(-16.525,-5.75) 44(-16.525,-6.25) 45(-16.525,-6.75) 46(-16.525,-7.25) 47(-16.525,-7.75) 48(-16.525,-8.25) 49(-16.525,-8.75) 50(-16.525,-9.25) 51(-16.525,-9.75) 52(-16.525,-10.25) 53(-16.525,-10.75) 54(-16.525,-11.25) 55(-16.525,-11.75) 56(-16.525,-12.25) 57(-16.525,-12.75) 58(-16.525,-13.25) 59(-16.525,-13.75) 60(-16.525,-14.25) 61(-16.525,-14.75) 62(-16.525,-15.25) 125(16.525,-15.25) 126(16.525,-14.75) 127(16.525,-14.25) 128(16.525,-13.75) 129(16.525,-13.25) 130(16.525,-12.75) 131(16.525,-12.25) 132(16.525,-11.75) 133(16.525,-11.25) 134(16.525,-10.75) 135(16.525,-10.25) 136(16.525,-9.75) 137(16.525,-9.25) 138(16.525,-8.75) 139(16.525,-8.25) 140(16.525,-7.75) 141(16.525,-7.25) 142(16.525,-6.75) 143(16.525,-6.25) 144(16.525,-5.75) 145(16.525,-5.25) 146(16.525,-4.75) 147(16.525,-4.25) 148(16.525,-3.75) 149(16.525,-3.25) 150(16.525,-2.75) 151(16.525,-2.25) 152(16.525,-1.75) 153(16.525,-1.25) 154(16.525,-0.75) 155(16.525,-0.25) 156(16.525,0.25) 157(16.525,0.75) 158(16.525,1.25) 159(16.525,1.75) 160(16.525,2.25) 161(16.525,2.75) 162(16.525,3.25) 163(16.525,3.75) 164(16.525,4.25) 165(16.525,4.75) 166(16.525,5.25) 167(16.525,5.75) 168(16.525,6.25) 169(16.525,6.75) 170(16.525,7.25) 171(16.525,7.75) 172(16.525,8.25) 173(16.525,8.75) 174(16.525,9.25) 175(16.525,9.75) 176(16.525,10.25) 177(16.525,10.75) 178(16.525,11.25) 179(16.525,11.75) 180(16.525,12.25) 181(16.525,12.75) 182(16.525,13.25) 183(16.525,13.75) 184(16.525,14.25) 185(16.525,14.75) 186(16.525,15.25)
  oval 0.25x1.55 smd: 63(-15.25,-16.525) 64(-14.75,-16.525) 65(-14.25,-16.525) 66(-13.75,-16.525) 67(-13.25,-16.525) 68(-12.75,-16.525) 69(-12.25,-16.525) 70(-11.75,-16.525) 71(-11.25,-16.525) 72(-10.75,-16.525) 73(-10.25,-16.525) 74(-9.75,-16.525) 75(-9.25,-16.525) 76(-8.75,-16.525) 77(-8.25,-16.525) 78(-7.75,-16.525) 79(-7.25,-16.525) 80(-6.75,-16.525) 81(-6.25,-16.525) 82(-5.75,-16.525) 83(-5.25,-16.525) 84(-4.75,-16.525) 85(-4.25,-16.525) 86(-3.75,-16.525) 87(-3.25,-16.525) 88(-2.75,-16.525) 89(-2.25,-16.525) 90(-1.75,-16.525) 91(-1.25,-16.525) 92(-0.75,-16.525) 93(-0.25,-16.525) 94(0.25,-16.525) 95(0.75,-16.525) 96(1.25,-16.525) 97(1.75,-16.525) 98(2.25,-16.525) 99(2.75,-16.525) 100(3.25,-16.525) 101(3.75,-16.525) 102(4.25,-16.525) 103(4.75,-16.525) 104(5.25,-16.525) 105(5.75,-16.525) 106(6.25,-16.525) 107(6.75,-16.525) 108(7.25,-16.525) 109(7.75,-16.525) 110(8.25,-16.525) 111(8.75,-16.525) 112(9.25,-16.525) 113(9.75,-16.525) 114(10.25,-16.525) 115(10.75,-16.525) 116(11.25,-16.525) 117(11.75,-16.525) 118(12.25,-16.525) 119(12.75,-16.525) 120(13.25,-16.525) 121(13.75,-16.525) 122(14.25,-16.525) 123(14.75,-16.525) 124(15.25,-16.525) 187(15.25,16.525) 188(14.75,16.525) 189(14.25,16.525) 190(13.75,16.525) 191(13.25,16.525) 192(12.75,16.525) 193(12.25,16.525) 194(11.75,16.525) 195(11.25,16.525) 196(10.75,16.525) 197(10.25,16.525) 198(9.75,16.525) 199(9.25,16.525) 200(8.75,16.525) 201(8.25,16.525) 202(7.75,16.525) 203(7.25,16.525) 204(6.75,16.525) 205(6.25,16.525) 206(5.75,16.525) 207(5.25,16.525) 208(4.75,16.525) 209(4.25,16.525) 210(3.75,16.525) 211(3.25,16.525) 212(2.75,16.525) 213(2.25,16.525) 214(1.75,16.525) 215(1.25,16.525) 216(0.75,16.525) 217(0.25,16.525) 218(-0.25,16.525) 219(-0.75,16.525) 220(-1.25,16.525) 221(-1.75,16.525) 222(-2.25,16.525) 223(-2.75,16.525) 224(-3.25,16.525) 225(-3.75,16.525) 226(-4.25,16.525) 227(-4.75,16.525) 228(-5.25,16.525) 229(-5.75,16.525) 230(-6.25,16.525) 231(-6.75,16.525) 232(-7.25,16.525) 233(-7.75,16.525) 234(-8.25,16.525) 235(-8.75,16.525) 236(-9.25,16.525) 237(-9.75,16.525) 238(-10.25,16.525) 239(-10.75,16.525) 240(-11.25,16.525) 241(-11.75,16.525) 242(-12.25,16.525) 243(-12.75,16.525) 244(-13.25,16.525) 245(-13.75,16.525) 246(-14.25,16.525) 247(-14.75,16.525) 248(-15.25,16.525)
Top Overlay:
  circle w0.6: c-14.35,14.35 r0.3
  circle w0.25: c-16.525,15.925 r0.125
  lines w0.2: -15.35,-15.35 15.35,-15.35 15.35,15.35 -15.35,15.35 -15.35,-15.35
Mechanical 13:
  circle w0.1: c-15.1,15.1 r0.5
  lines w0.1: -16,-16 16,-16 16,16 -16,16 -16,-16
Mechanical 15:
  lines w0.1: -0.5,0 0.5,0 ; 0,-0.5 0,0.5 ; -17.4,-17.4 17.4,-17.4 17.4,17.4 -17.4,17.4 -17.4,-17.4
3D body: height 4.2, standoff 0, extent -16,-16 16,16

## SQFP50P3460X3460-240L [mm] "Shrink QFP, 240-Leads, Body 32x32mm, Pitch 0.5mm, IPC High Density"
height 4.1
pads (240):
  oval 1.55x0.25 smd: 1(-16.825,14.75) 2(-16.825,14.25) 3(-16.825,13.75) 4(-16.825,13.25) 5(-16.825,12.75) 6(-16.825,12.25) 7(-16.825,11.75) 8(-16.825,11.25) 9(-16.825,10.75) 10(-16.825,10.25) 11(-16.825,9.75) 12(-16.825,9.25) 13(-16.825,8.75) 14(-16.825,8.25) 15(-16.825,7.75) 16(-16.825,7.25) 17(-16.825,6.75) 18(-16.825,6.25) 19(-16.825,5.75) 20(-16.825,5.25) 21(-16.825,4.75) 22(-16.825,4.25) 23(-16.825,3.75) 24(-16.825,3.25) 25(-16.825,2.75) 26(-16.825,2.25) 27(-16.825,1.75) 28(-16.825,1.25) 29(-16.825,0.75) 30(-16.825,0.25) 31(-16.825,-0.25) 32(-16.825,-0.75) 33(-16.825,-1.25) 34(-16.825,-1.75) 35(-16.825,-2.25) 36(-16.825,-2.75) 37(-16.825,-3.25) 38(-16.825,-3.75) 39(-16.825,-4.25) 40(-16.825,-4.75) 41(-16.825,-5.25) 42(-16.825,-5.75) 43(-16.825,-6.25) 44(-16.825,-6.75) 45(-16.825,-7.25) 46(-16.825,-7.75) 47(-16.825,-8.25) 48(-16.825,-8.75) 49(-16.825,-9.25) 50(-16.825,-9.75) 51(-16.825,-10.25) 52(-16.825,-10.75) 53(-16.825,-11.25) 54(-16.825,-11.75) 55(-16.825,-12.25) 56(-16.825,-12.75) 57(-16.825,-13.25) 58(-16.825,-13.75) 59(-16.825,-14.25) 60(-16.825,-14.75) 121(16.825,-14.75) 122(16.825,-14.25) 123(16.825,-13.75) 124(16.825,-13.25) 125(16.825,-12.75) 126(16.825,-12.25) 127(16.825,-11.75) 128(16.825,-11.25) 129(16.825,-10.75) 130(16.825,-10.25) 131(16.825,-9.75) 132(16.825,-9.25) 133(16.825,-8.75) 134(16.825,-8.25) 135(16.825,-7.75) 136(16.825,-7.25) 137(16.825,-6.75) 138(16.825,-6.25) 139(16.825,-5.75) 140(16.825,-5.25) 141(16.825,-4.75) 142(16.825,-4.25) 143(16.825,-3.75) 144(16.825,-3.25) 145(16.825,-2.75) 146(16.825,-2.25) 147(16.825,-1.75) 148(16.825,-1.25) 149(16.825,-0.75) 150(16.825,-0.25) 151(16.825,0.25) 152(16.825,0.75) 153(16.825,1.25) 154(16.825,1.75) 155(16.825,2.25) 156(16.825,2.75) 157(16.825,3.25) 158(16.825,3.75) 159(16.825,4.25) 160(16.825,4.75) 161(16.825,5.25) 162(16.825,5.75) 163(16.825,6.25) 164(16.825,6.75) 165(16.825,7.25) 166(16.825,7.75) 167(16.825,8.25) 168(16.825,8.75) 169(16.825,9.25) 170(16.825,9.75) 171(16.825,10.25) 172(16.825,10.75) 173(16.825,11.25) 174(16.825,11.75) 175(16.825,12.25) 176(16.825,12.75) 177(16.825,13.25) 178(16.825,13.75) 179(16.825,14.25) 180(16.825,14.75)
  oval 0.25x1.55 smd: 61(-14.75,-16.825) 62(-14.25,-16.825) 63(-13.75,-16.825) 64(-13.25,-16.825) 65(-12.75,-16.825) 66(-12.25,-16.825) 67(-11.75,-16.825) 68(-11.25,-16.825) 69(-10.75,-16.825) 70(-10.25,-16.825) 71(-9.75,-16.825) 72(-9.25,-16.825) 73(-8.75,-16.825) 74(-8.25,-16.825) 75(-7.75,-16.825) 76(-7.25,-16.825) 77(-6.75,-16.825) 78(-6.25,-16.825) 79(-5.75,-16.825) 80(-5.25,-16.825) 81(-4.75,-16.825) 82(-4.25,-16.825) 83(-3.75,-16.825) 84(-3.25,-16.825) 85(-2.75,-16.825) 86(-2.25,-16.825) 87(-1.75,-16.825) 88(-1.25,-16.825) 89(-0.75,-16.825) 90(-0.25,-16.825) 91(0.25,-16.825) 92(0.75,-16.825) 93(1.25,-16.825) 94(1.75,-16.825) 95(2.25,-16.825) 96(2.75,-16.825) 97(3.25,-16.825) 98(3.75,-16.825) 99(4.25,-16.825) 100(4.75,-16.825) 101(5.25,-16.825) 102(5.75,-16.825) 103(6.25,-16.825) 104(6.75,-16.825) 105(7.25,-16.825) 106(7.75,-16.825) 107(8.25,-16.825) 108(8.75,-16.825) 109(9.25,-16.825) 110(9.75,-16.825) 111(10.25,-16.825) 112(10.75,-16.825) 113(11.25,-16.825) 114(11.75,-16.825) 115(12.25,-16.825) 116(12.75,-16.825) 117(13.25,-16.825) 118(13.75,-16.825) 119(14.25,-16.825) 120(14.75,-16.825) 181(14.75,16.825) 182(14.25,16.825) 183(13.75,16.825) 184(13.25,16.825) 185(12.75,16.825) 186(12.25,16.825) 187(11.75,16.825) 188(11.25,16.825) 189(10.75,16.825) 190(10.25,16.825) 191(9.75,16.825) 192(9.25,16.825) 193(8.75,16.825) 194(8.25,16.825) 195(7.75,16.825) 196(7.25,16.825) 197(6.75,16.825) 198(6.25,16.825) 199(5.75,16.825) 200(5.25,16.825) 201(4.75,16.825) 202(4.25,16.825) 203(3.75,16.825) 204(3.25,16.825) 205(2.75,16.825) 206(2.25,16.825) 207(1.75,16.825) 208(1.25,16.825) 209(0.75,16.825) 210(0.25,16.825) 211(-0.25,16.825) 212(-0.75,16.825) 213(-1.25,16.825) 214(-1.75,16.825) 215(-2.25,16.825) 216(-2.75,16.825) 217(-3.25,16.825) 218(-3.75,16.825) 219(-4.25,16.825) 220(-4.75,16.825) 221(-5.25,16.825) 222(-5.75,16.825) 223(-6.25,16.825) 224(-6.75,16.825) 225(-7.25,16.825) 226(-7.75,16.825) 227(-8.25,16.825) 228(-8.75,16.825) 229(-9.25,16.825) 230(-9.75,16.825) 231(-10.25,16.825) 232(-10.75,16.825) 233(-11.25,16.825) 234(-11.75,16.825) 235(-12.25,16.825) 236(-12.75,16.825) 237(-13.25,16.825) 238(-13.75,16.825) 239(-14.25,16.825) 240(-14.75,16.825)
Top Overlay:
  circle w0.6: c-14.65,14.65 r0.3
  circle w0.25: c-16.825,15.425 r0.125
  lines w0.2: -15.65,-15.65 15.65,-15.65 15.65,15.65 -15.65,15.65 -15.65,-15.65
Mechanical 13:
  circle w0.1: c-15.1,15.1 r0.5
  lines w0.1: -16,-16 16,-16 16,16 -16,16 -16,-16
Mechanical 15:
  lines w0.1: -0.5,0 0.5,0 ; 0,-0.5 0,0.5 ; -17.7,-17.7 17.7,-17.7 17.7,17.7 -17.7,17.7 -17.7,-17.7
3D body: height 4.1, standoff 0, extent -16,-16 16,16

## SQFP50P3800X3800-272L [mm] "Shrink QFP, 272-Leads, Body 36x36mm, Pitch 0.5mm, IPC High Density"
height 4.2
pads (272):
  oval 1.55x0.25 smd: 1(-18.525,16.75) 2(-18.525,16.25) 3(-18.525,15.75) 4(-18.525,15.25) 5(-18.525,14.75) 6(-18.525,14.25) 7(-18.525,13.75) 8(-18.525,13.25) 9(-18.525,12.75) 10(-18.525,12.25) 11(-18.525,11.75) 12(-18.525,11.25) 13(-18.525,10.75) 14(-18.525,10.25) 15(-18.525,9.75) 16(-18.525,9.25) 17(-18.525,8.75) 18(-18.525,8.25) 19(-18.525,7.75) 20(-18.525,7.25) 21(-18.525,6.75) 22(-18.525,6.25) 23(-18.525,5.75) 24(-18.525,5.25) 25(-18.525,4.75) 26(-18.525,4.25) 27(-18.525,3.75) 28(-18.525,3.25) 29(-18.525,2.75) 30(-18.525,2.25) 31(-18.525,1.75) 32(-18.525,1.25) 33(-18.525,0.75) 34(-18.525,0.25) 35(-18.525,-0.25) 36(-18.525,-0.75) 37(-18.525,-1.25) 38(-18.525,-1.75) 39(-18.525,-2.25) 40(-18.525,-2.75) 41(-18.525,-3.25) 42(-18.525,-3.75) 43(-18.525,-4.25) 44(-18.525,-4.75) 45(-18.525,-5.25) 46(-18.525,-5.75) 47(-18.525,-6.25) 48(-18.525,-6.75) 49(-18.525,-7.25) 50(-18.525,-7.75) 51(-18.525,-8.25) 52(-18.525,-8.75) 53(-18.525,-9.25) 54(-18.525,-9.75) 55(-18.525,-10.25) 56(-18.525,-10.75) 57(-18.525,-11.25) 58(-18.525,-11.75) 59(-18.525,-12.25) 60(-18.525,-12.75) 61(-18.525,-13.25) 62(-18.525,-13.75) 63(-18.525,-14.25) 64(-18.525,-14.75) 65(-18.525,-15.25) 66(-18.525,-15.75) 67(-18.525,-16.25) 68(-18.525,-16.75) 137(18.525,-16.75) 138(18.525,-16.25) 139(18.525,-15.75) 140(18.525,-15.25) 141(18.525,-14.75) 142(18.525,-14.25) 143(18.525,-13.75) 144(18.525,-13.25) 145(18.525,-12.75) 146(18.525,-12.25) 147(18.525,-11.75) 148(18.525,-11.25) 149(18.525,-10.75) 150(18.525,-10.25) 151(18.525,-9.75) 152(18.525,-9.25) 153(18.525,-8.75) 154(18.525,-8.25) 155(18.525,-7.75) 156(18.525,-7.25) 157(18.525,-6.75) 158(18.525,-6.25) 159(18.525,-5.75) 160(18.525,-5.25) 161(18.525,-4.75) 162(18.525,-4.25) 163(18.525,-3.75) 164(18.525,-3.25) 165(18.525,-2.75) 166(18.525,-2.25) 167(18.525,-1.75) 168(18.525,-1.25) 169(18.525,-0.75) 170(18.525,-0.25) 171(18.525,0.25) 172(18.525,0.75) 173(18.525,1.25) 174(18.525,1.75) 175(18.525,2.25) 176(18.525,2.75) 177(18.525,3.25) 178(18.525,3.75) 179(18.525,4.25) 180(18.525,4.75) 181(18.525,5.25) 182(18.525,5.75) 183(18.525,6.25) 184(18.525,6.75) 185(18.525,7.25) 186(18.525,7.75) 187(18.525,8.25) 188(18.525,8.75) 189(18.525,9.25) 190(18.525,9.75) 191(18.525,10.25) 192(18.525,10.75) 193(18.525,11.25) 194(18.525,11.75) 195(18.525,12.25) 196(18.525,12.75) 197(18.525,13.25) 198(18.525,13.75) 199(18.525,14.25) 200(18.525,14.75) 201(18.525,15.25) 202(18.525,15.75) 203(18.525,16.25) 204(18.525,16.75)
  oval 0.25x1.55 smd: 69(-16.75,-18.525) 70(-16.25,-18.525) 71(-15.75,-18.525) 72(-15.25,-18.525) 73(-14.75,-18.525) 74(-14.25,-18.525) 75(-13.75,-18.525) 76(-13.25,-18.525) 77(-12.75,-18.525) 78(-12.25,-18.525) 79(-11.75,-18.525) 80(-11.25,-18.525) 81(-10.75,-18.525) 82(-10.25,-18.525) 83(-9.75,-18.525) 84(-9.25,-18.525) 85(-8.75,-18.525) 86(-8.25,-18.525) 87(-7.75,-18.525) 88(-7.25,-18.525) 89(-6.75,-18.525) 90(-6.25,-18.525) 91(-5.75,-18.525) 92(-5.25,-18.525) 93(-4.75,-18.525) 94(-4.25,-18.525) 95(-3.75,-18.525) 96(-3.25,-18.525) 97(-2.75,-18.525) 98(-2.25,-18.525) 99(-1.75,-18.525) 100(-1.25,-18.525) 101(-0.75,-18.525) 102(-0.25,-18.525) 103(0.25,-18.525) 104(0.75,-18.525) 105(1.25,-18.525) 106(1.75,-18.525) 107(2.25,-18.525) 108(2.75,-18.525) 109(3.25,-18.525) 110(3.75,-18.525) 111(4.25,-18.525) 112(4.75,-18.525) 113(5.25,-18.525) 114(5.75,-18.525) 115(6.25,-18.525) 116(6.75,-18.525) 117(7.25,-18.525) 118(7.75,-18.525) 119(8.25,-18.525) 120(8.75,-18.525) 121(9.25,-18.525) 122(9.75,-18.525) 123(10.25,-18.525) 124(10.75,-18.525) 125(11.25,-18.525) 126(11.75,-18.525) 127(12.25,-18.525) 128(12.75,-18.525) 129(13.25,-18.525) 130(13.75,-18.525) 131(14.25,-18.525) 132(14.75,-18.525) 133(15.25,-18.525) 134(15.75,-18.525) 135(16.25,-18.525) 136(16.75,-18.525) 205(16.75,18.525) 206(16.25,18.525) 207(15.75,18.525) 208(15.25,18.525) 209(14.75,18.525) 210(14.25,18.525) 211(13.75,18.525) 212(13.25,18.525) 213(12.75,18.525) 214(12.25,18.525) 215(11.75,18.525) 216(11.25,18.525) 217(10.75,18.525) 218(10.25,18.525) 219(9.75,18.525) 220(9.25,18.525) 221(8.75,18.525) 222(8.25,18.525) 223(7.75,18.525) 224(7.25,18.525) 225(6.75,18.525) 226(6.25,18.525) 227(5.75,18.525) 228(5.25,18.525) 229(4.75,18.525) 230(4.25,18.525) 231(3.75,18.525) 232(3.25,18.525) 233(2.75,18.525) 234(2.25,18.525) 235(1.75,18.525) 236(1.25,18.525) 237(0.75,18.525) 238(0.25,18.525) 239(-0.25,18.525) 240(-0.75,18.525) 241(-1.25,18.525) 242(-1.75,18.525) 243(-2.25,18.525) 244(-2.75,18.525) 245(-3.25,18.525) 246(-3.75,18.525) 247(-4.25,18.525) 248(-4.75,18.525) 249(-5.25,18.525) 250(-5.75,18.525) 251(-6.25,18.525) 252(-6.75,18.525) 253(-7.25,18.525) 254(-7.75,18.525) 255(-8.25,18.525) 256(-8.75,18.525) 257(-9.25,18.525) 258(-9.75,18.525) 259(-10.25,18.525) 260(-10.75,18.525) 261(-11.25,18.525) 262(-11.75,18.525) 263(-12.25,18.525) 264(-12.75,18.525) 265(-13.25,18.525) 266(-13.75,18.525) 267(-14.25,18.525) 268(-14.75,18.525) 269(-15.25,18.525) 270(-15.75,18.525) 271(-16.25,18.525) 272(-16.75,18.525)
Top Overlay:
  circle w0.6: c-16.35,16.35 r0.3
  circle w0.25: c-18.525,17.425 r0.125
  lines w0.2: -17.35,-17.35 17.35,-17.35 17.35,17.35 -17.35,17.35 -17.35,-17.35
Mechanical 13:
  circle w0.1: c-17.1,17.1 r0.5
  lines w0.1: -18,-18 18,-18 18,18 -18,18 -18,-18
Mechanical 15:
  lines w0.1: -0.5,0 0.5,0 ; 0,-0.5 0,0.5 ; -19.4,-19.4 19.4,-19.4 19.4,19.4 -19.4,19.4 -19.4,-19.4
3D body: height 4.2, standoff 0, extent -18,-18 18,18